# EAGLE library part TRANSFORMER (library ryans-common-components)
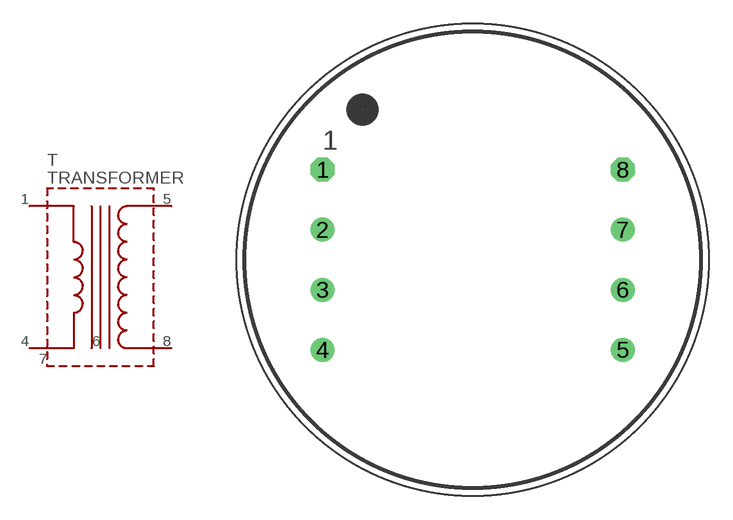
[diagram p21: symbol with the pads of JENSEN-JT-11K8-APC; footprint JENSEN-JT-11K8-APC]

Designator prefix T

## TRANSFORMER-JT-11K8-APC  [JENSEN-JT-11K8-APC]
1  IN+
4  IN-
5  OUT+
6  CORE-GND
7  CHASSIS-GND
8  OUT-

## Footprint JENSEN-JT-11K8-APC (pad centres in mm)
drill 1.016 octagon: 1 -9.525,5.715; 8 9.525,5.715
drill 1.016: 2 -9.525,1.905; 3 -9.525,-1.905; 4 -9.525,-5.715; 5 9.525,-5.715; 6 9.525,-1.905; 7 9.525,1.905